# Altium footprint library WLCSP 4.PcbLib: 1 footprints
Each footprint in its own frame and in the unit in brackets; x right, y up, seen from the top. Pads: shape width x height; smd on the part's side, far side on the other; paste and mask are expansions set on the pad; w line width, h text height; cw(c..) or ccw(c..) is an arc to the next point about the centre after c.
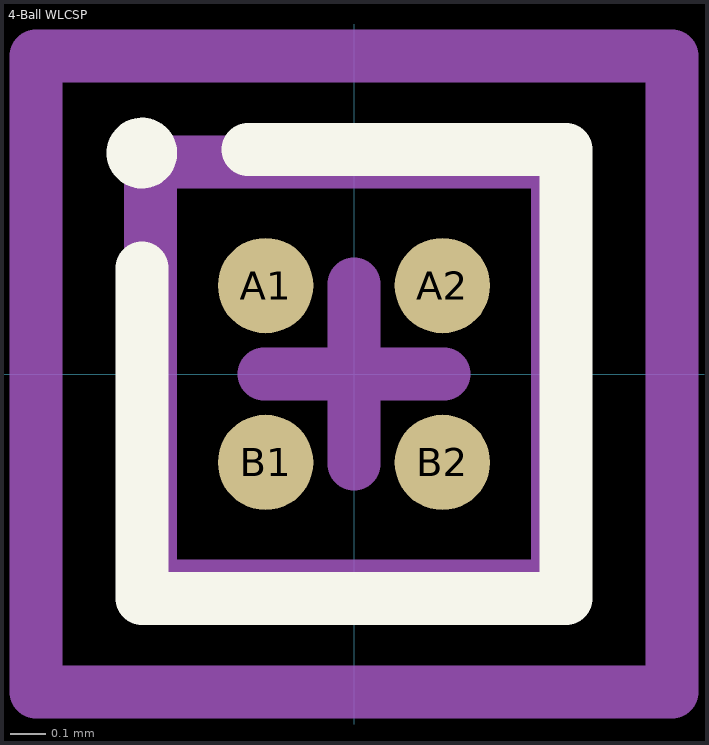
[diagram p0: the footprint, top view; thin cyan lines are the x and y axes]

## 4-Ball WLCSP [mm]
height 0.64
pads (4):
  round 0.27 smd: A1(-0.25,0.25) A2(0.25,0.25) B1(-0.25,-0.25) B2(0.25,-0.25)
Top Overlay:
  circle w0.1: c-0.6,0.625 r0.05
  lines w0.15: -0.6,0.3 -0.6,-0.635 0.6,-0.635 0.6,0.635 -0.3,0.635
Mechanical 13:
  lines w0.15: -0.575,-0.6 -0.575,0.6 0.575,0.6 0.575,-0.6 -0.575,-0.6
Mechanical 15:
  lines w0.15: -0.254,0 0.254,0 ; 0,-0.254 0,0.254 ; -0.9,-0.9 0.9,-0.9 0.9,0.9 -0.9,0.9 -0.9,-0.9
3D body: height 0.64, standoff 0.27, extent -0.5,-0.537 0.5,0.538